# Altium schematic symbol library Jumper.SchLib: 2 symbols
Pins are listed as number, name and electrical type; pins without a type are passive.

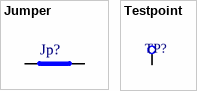
[diagram p0: symbols Jumper to Testpoint]

## Jumper
designator Jp?  (net tie, no BOM)
footprint nettie1
pins: 1, 2
1 alternate drawing of the same symbol

## Testpoint
designator TP?  (no BOM)
pins: 1